# EAGLE library part FT232RL (library 000_CustomPartsMaster)
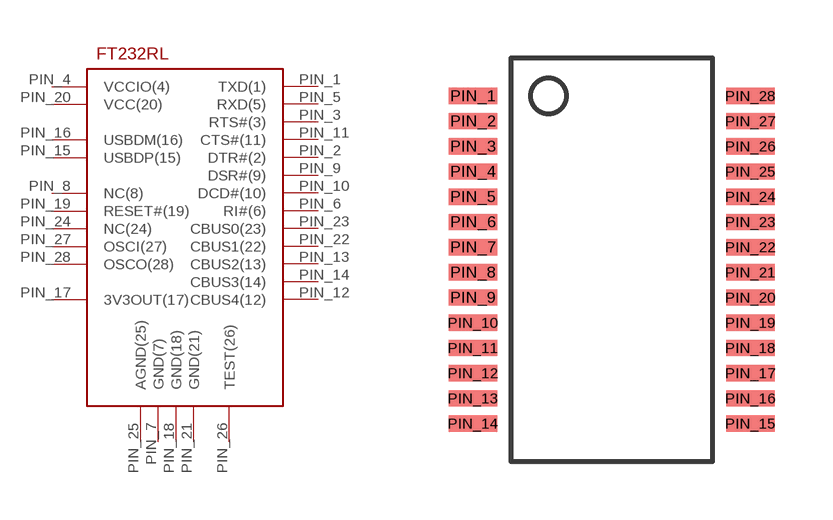
[diagram p0: symbol with the pads of FT232RL-PAC; footprint FT232RL-PAC]

Designator prefix -

## FT232RL  [FT232RL-PAC]
PIN_1  TXD(1)
PIN_2  DTR#(2)
PIN_3  RTS#(3)
PIN_4  VCCIO(4)
PIN_5  RXD(5)
PIN_6  RI#(6)
PIN_7  GND(7)
PIN_8  NC(8)
PIN_9  DSR#(9)
PIN_10  DCD#(10)
PIN_11  CTS#(11)
PIN_12  CBUS4(12)
PIN_13  CBUS2(13)
PIN_14  CBUS3(14)
PIN_15  USBDP(15)
PIN_16  USBDM(16)
PIN_17  3V3OUT(17)
PIN_18  GND(18)
PIN_19  RESET#(19)
PIN_20  VCC(20)
PIN_21  GND(21)
PIN_22  CBUS1(22)
PIN_23  CBUS0(23)
PIN_24  NC(24)
PIN_25  AGND(25)
PIN_26  TEST(26)
PIN_27  OSCI(27)
PIN_28  OSCO(28)

## Footprint FT232RL-PAC (pad centres in mm)
smd 1.25 x 0.42: PIN_1 0.65,0; PIN_2 0.65,-0.65; PIN_3 0.65,-1.3; PIN_4 0.65,-1.95; PIN_5 0.65,-2.6; PIN_6 0.65,-3.25; PIN_7 0.65,-3.9; PIN_8 0.65,-4.55; PIN_9 0.65,-5.2; PIN_10 0.65,-5.85; PIN_11 0.65,-6.5; PIN_12 0.65,-7.15; PIN_13 0.65,-7.8; PIN_14 0.65,-8.45; PIN_15 7.8,-8.45; PIN_16 7.8,-7.8; PIN_17 7.8,-7.15; PIN_18 7.8,-6.5; PIN_19 7.8,-5.85; PIN_20 7.8,-5.2; PIN_21 7.8,-4.55; PIN_22 7.8,-3.9; PIN_23 7.8,-3.25; PIN_24 7.8,-2.6; PIN_25 7.8,-1.95; PIN_26 7.8,-1.3; PIN_27 7.8,-0.65; PIN_28 7.8,0